# EAGLE library part RFM69HCW (library Bulkhead Flight Computer)
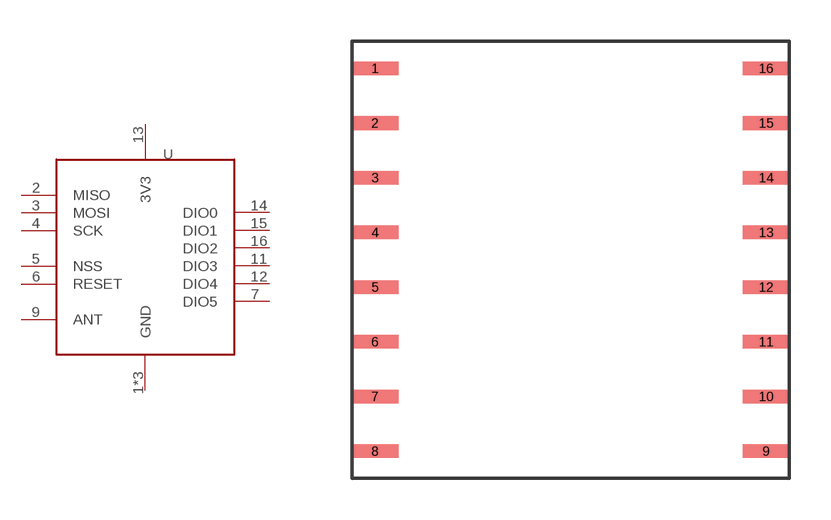
[diagram p5: symbol with the pads of RFM69HCW; footprint RFM69HCW]

Designator prefix U

## RFM69HCW  [RFM69HCW]
1  GND  pas
2  MISO
3  MOSI
4  SCK
5  NSS
6  RESET
7  DIO5
8  GND  pas
9  ANT
10  GND  pas
11  DIO3
12  DIO4
13  3V3  pwr
14  DIO0
15  DIO1
16  DIO2

## Footprint RFM69HCW (pad centres in mm)
smd 1.7 x 0.5: 1 -7.15,7; 2 -7.15,5; 3 -7.15,3; 4 -7.15,1; 5 -7.15,-1; 6 -7.15,-3; 7 -7.15,-5; 8 -7.15,-7; 9 7.15,-7; 10 7.15,-5; 11 7.15,-3; 12 7.15,-1; 13 7.15,1; 14 7.15,3; 15 7.15,5; 16 7.15,7